# Altium integrated library USB-hub.IntLib: 11 symbols
Pins are listed as number, name and electrical type; pins without a type are passive.

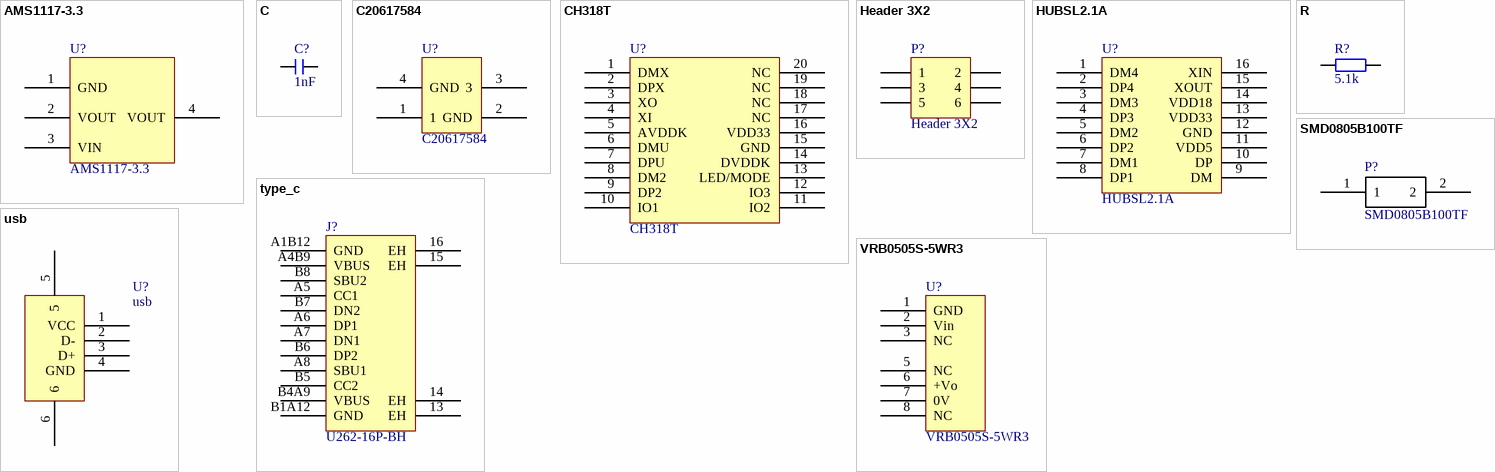
[diagram p0: symbols AMS1117-3.3 to VRB0505S‑5WR3]

## AMS1117-3.3
designator U?
footprint AMS1117-3.3
pins: 1 GND, 2 VOUT, 3 VIN, 4 VOUT

## C
designator C?, comment 1nF
贴片电容; BOM名称: 无极性贴片电容; 淘宝ID: 封装库来自淘宝 ID：黄晶宝石; 联系售后: https://shop463601444.taobao.com
footprint C 0201_L (无极性贴片电容)
footprint C 0402_L (无极性贴片电容)
footprint C 0603_L (无极性贴片电容)
footprint C 0603_L (无极性贴片电容                                       淘宝ID:黄晶宝石)
footprint C 1206_L (无极性贴片电容)
footprint C 1210_L (无极性贴片电容)
footprint C 1808_L (无极性贴片电容)
footprint C 1812_L (无极性贴片电容)
footprint C 1825_L (无极性贴片电容)
footprint C 2225_L (无极性贴片电容)
footprint C 0201_M (无极性贴片电容)
footprint C 0402_M (无极性贴片电容)
footprint C 0603_M (无极性贴片电容)
footprint C 0805_M (无极性贴片电容)
footprint C 1206_M (无极性贴片电容)
footprint C 1210_M (无极性贴片电容)
footprint C 1808_M (无极性贴片电容)
footprint C 1812_M (无极性贴片电容)
footprint C 1825_M (无极性贴片电容)
footprint C 2225_M (无极性贴片电容)
pins: 1, 2

## C20617584
designator U?
footprint C20617584
pins: 1, 2 GND, 3, 4 GND

## CH318T
designator U?
footprint CH318T
pins: 1 DMX, 2 DPX, 3 XO, 4 XI, 5 AVDDK, 6 DMU, 7 DPU, 8 DM2, 9 DP2, 10 IO1, 11 IO2, 12 IO3, 13 LED/MODE, 14 DVDDK, 15 GND, 16 VDD33, 17 NC, 18 NC, 19 NC, 20 NC

## Header 3X2
designator P?
Header, 3-Pin, Dual row; LatestRevisionDate: 17-Jul-2002; LatestRevisionNote: Re-released for DXP Platform.; Publisher: Altium Limited
footprint HDR2X3 (Connector; Header; 3x2 Position)
signal-integrity model Connector
footprint SOT-6
pins: 1, 2, 3, 4, 5, 6

## HUBSL2.1A
designator U?
footprint HUBSL2.1A
pins: 1 DM4, 2 DP4, 3 DM3, 4 DP3, 5 DM2, 6 DP2, 7 DM1, 8 DP1, 9 DM, 10 DP, 11 VDD5, 12 GND, 13 VDD33, 14 VDD18, 15 XOUT, 16 XIN

## R
designator R?, comment 5.1k
贴片电阻; 版权归属: 来自淘宝 ID：黄晶宝石; BOM名称: 贴片电阻; 联系售后: https://shop463601444.taobao.com
footprint R 0201_L (1/20W贴片电阻)
footprint R 0402_L (1/16W贴片电阻)
footprint R 0603_L (1/10W贴片电阻)
footprint R 0805_L (1/8W贴片电阻)
footprint R 1206_L (1/4W贴片电阻)
footprint R 1210_L (1/3W贴片电阻)
footprint R 1812_L (1/2W贴片电阻)
footprint R 2010_L (3/4W贴片电阻)
footprint R 2512_L (1W贴片电阻)
footprint R 0201_M (1/20W贴片电阻)
footprint R 0402_M (1/16W贴片电阻)
footprint R 0603_M (1/10W贴片电阻)
footprint R 0805_M (1/8W贴片电阻)
footprint R 1206_M (1/4W贴片电阻)
footprint R 1210_M (1/3W贴片电阻)
footprint R 1812_M (1/2W贴片电阻)
footprint R 2010_M (3/4W贴片电阻)
footprint R 2512_M (1W贴片电阻)
pins: 1, 2

## SMD0805B100TF
designator P?
footprint SMD0805B100TF
pins: 1, 2

## type_c
designator J?, comment U262‑16P‑BH
footprint USB-hub
pins: 13 EH, 14 EH, 15 EH, 16 EH, A1B12 GND, A4B9 VBUS, A5 CC1, A6 DP1, A7 DN1, A8 SBU1, B1A12 GND, B4A9 VBUS, B5 CC2, B6 DP2, B7 DN2, B8 SBU2

## usb
designator U?
footprint usb
pins: 1 VCC, 2 D-, 3 D+, 4 GND, 5, 6

## VRB0505S‑5WR3
designator U?
footprint VRB0505S_5WR3
pins: 1 GND, 2 Vin, 3 NC, 5 NC, 6 +Vo, 7 0V, 8 NC